# EAGLE library part MM74HC138N (library Fairchild_By_element14_Batch_1)
3-to-8 Line Decoder
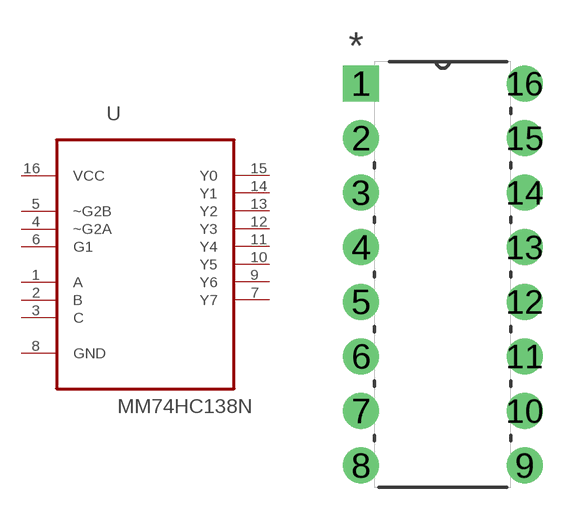
[diagram p247: symbol with the pads of DIP254P762X508-16; footprint DIP254P762X508-16]

Designator prefix U

## MM74HC138N (MPN: MM74HC138N; OC_FARNELL: 1013923; OC_NEWARK: 58K9444; PACKAGE: PDIP-16; SUPPLIER: Fairchild)  [DIP254P762X508-16]
1  A  in
2  B  in
3  C  in
4  ~G2A  in
5  ~G2B  in
6  G1  in
7  Y7  out
8  GND  pas
9  Y6  out
10  Y5  out
11  Y4  out
12  Y3  out
13  Y2  out
14  Y1  out
15  Y0  out
16  VCC  pwr

## Footprint DIP254P762X508-16 (pad centres in mm)
drill 1.118 square: 1 -7.62,17.78
drill 1.118: 2 -7.62,15.24; 3 -7.62,12.7; 4 -7.62,10.16; 5 -7.62,7.62; 6 -7.62,5.08; 7 -7.62,2.54; 8 -7.62,0; 9 0,0; 10 0,2.54; 11 0,5.08; 12 0,7.62; 13 0,10.16; 14 0,12.7; 15 0,15.24; 16 0,17.78